# Altium schematic symbol library IC-Audio.SchLib: 2 symbols
Pins are listed as number, name and electrical type; pins without a type are passive.

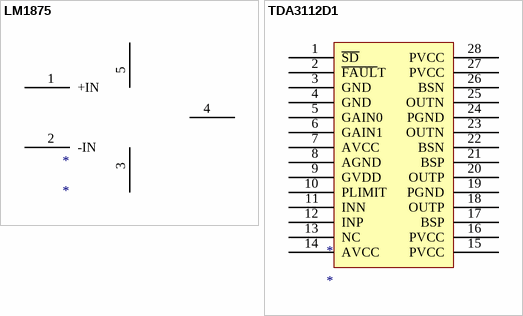
[diagram p0: symbols LM1875 to TDA3112D1]

## LM1875
designator *
pins: 1 +IN, 2 -IN, 3 -VEE, 4 OUTPUT, 5 VCC

## TDA3112D1
designator *
footprint TSSOP-28
pins: 1 ~{SD}, 2 ~{FAUL}T, 3 GND, 4 GND, 5 GAIN0, 6 GAIN1, 7 AVCC, 8 AGND, 9 GVDD, 10 PLIMIT, 11 INN, 12 INP, 13 NC, 14 AVCC, 15 PVCC, 16 PVCC, 17 BSP, 18 OUTP, 19 PGND, 20 OUTP, 21 BSP, 22 BSN, 23 OUTN, 24 PGND, 25 OUTN, 26 BSN, 27 PVCC, 28 PVCC